# EAGLE library part A3972SB-T (library Allegro_By_element14_Batch_1)
Dual DMOS Full-Bridge Microstepping PWM Motor Driver
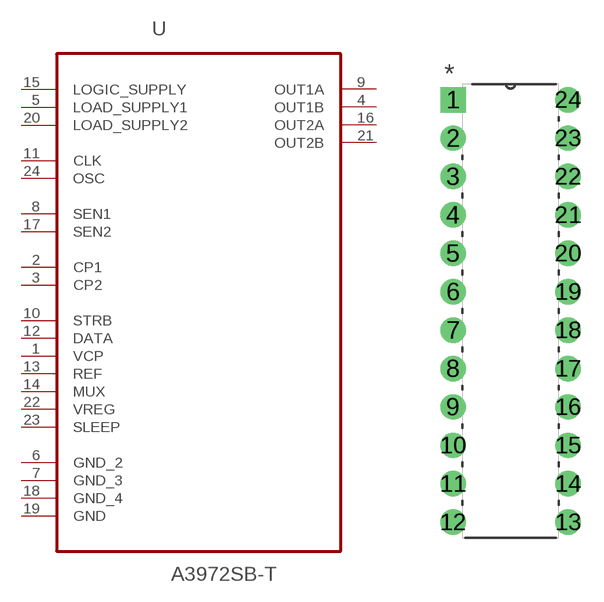
[diagram p4: symbol with the pads of DIP254P762X533-24; footprint DIP254P762X533-24]

Designator prefix U

## A3972SB-T (MPN: A3972SB-T; OC_FARNELL: 1457114; OC_NEWARK: 59J2487; PACKAGE: PDIP-24; SUPPLIER: ALLEGRO MICROSYSTEMS)  [DIP254P762X533-24]
1  VCP  pas
2  CP1  pas
3  CP2  pas
4  OUT1B  out
5  LOAD_SUPPLY1  pwr
6  GND_2  pas
7  GND_3  pas
8  SEN1  in
9  OUT1A  out
10  STRB  in
11  CLK  in
12  DATA  in
13  REF  in
14  MUX  pas
15  LOGIC_SUPPLY  pwr
16  OUT2A  out
17  SEN2  in
18  GND_4  pas
19  GND  pas
20  LOAD_SUPPLY2  pwr
21  OUT2B  out
22  VREG  pas
23  SLEEP  in
24  OSC  in

## Footprint DIP254P762X533-24 (pad centres in mm)
drill 1.118 square: 1 -7.62,27.94
drill 1.118: 2 -7.62,25.4; 3 -7.62,22.86; 4 -7.62,20.32; 5 -7.62,17.78; 6 -7.62,15.24; 7 -7.62,12.7; 8 -7.62,10.16; 9 -7.62,7.62; 10 -7.62,5.08; 11 -7.62,2.54; 12 -7.62,0; 13 0,0; 14 0,2.54; 15 0,5.08; 16 0,7.62; 17 0,10.16; 18 0,12.7; 19 0,15.24; 20 0,17.78; 21 0,20.32; 22 0,22.86; 23 0,25.4; 24 0,27.94